# Altium footprint library Radial_10_3x10_3mm_SMD.PcbLib: 1 footprints
Each footprint in its own frame and in the unit in brackets; x right, y up, seen from the top. Pads: shape width x height; smd on the part's side, far side on the other; paste and mask are expansions set on the pad; w line width, h text height; cw(c..) or ccw(c..) is an arc to the next point about the centre after c.
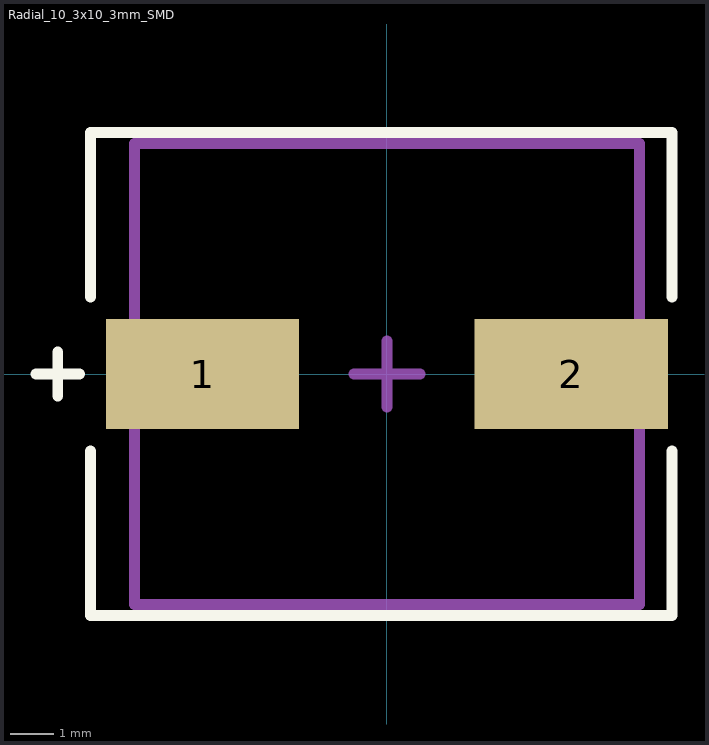
[diagram p0: the footprint, top view; thin cyan lines are the x and y axes]

## Radial_10_3x10_3mm_SMD [mm]
height 10.5
pads (2):
  rect 4.4x2.5 smd mask+0.051: 1(-4.2,0) 2(4.2,0)
Top Overlay:
  lines w0.25: -8,0 -7.5,0 ; -7.5,-0.5 -7.5,0 ; -7.5,0.5 -7.5,0 ; -7,0 -7.5,0 ; -6.75,-1.75 -6.75,-2.25 -6.75,-5.5 6.5,-5.5 6.5,-1.75 ; -6.75,1.75 -6.75,5.5 6.5,5.5 6.5,1.75
Mechanical 13:
  lines w0.25: -5.75,-5.25 5.75,-5.25 5.75,5.25 -5.75,5.25 -5.75,-5.25
Mechanical 15:
  lines w0.25: -0.75,0 0,0 ; 0,-0.75 0,0 ; 0,0.75 0,0 ; 0.75,0 0,0
3D body "A769MS107M1JLAS018.step": height 12.5, standoff -0.2, extent -5.6,-5.25 5.6,5.25